# EAGLE library part THAT2180 (library that-corp)
VCA Trimmable IC
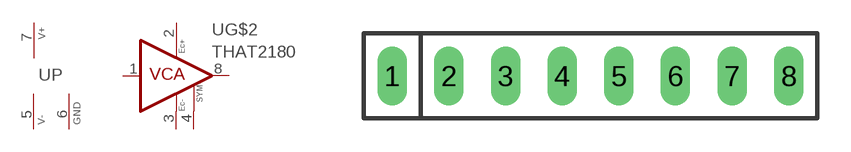
[diagram p2: symbol with the pads of SIP8; footprint SIP8]

Designator prefix U; gates P=PWRN_+-G G$2=VCA_SYM

## THAT2180  [SIP8]
1  G$2:VCA_IN  in
2  G$2:EC+  pas
3  G$2:EC-  pas
4  G$2:SYM  pas
5  P:V-  pwr
6  P:GND  pwr
7  P:V+  pwr
8  G$2:VCA_OUT  out

## Footprint SIP8 (pad centres in mm)
SIP-9 9 Pin SIP IC
drill 0.813 long: 1 -10.16,0; 2 -7.62,0; 3 -5.08,0; 4 -2.54,0; 5 0,0; 6 2.54,0; 7 5.08,0; 8 7.62,0